# Altium schematic symbol library Libreria_DC_DC_Modulos.SchLib: 16 symbols
Pins are listed as number, name and electrical type; pins without a type are passive.

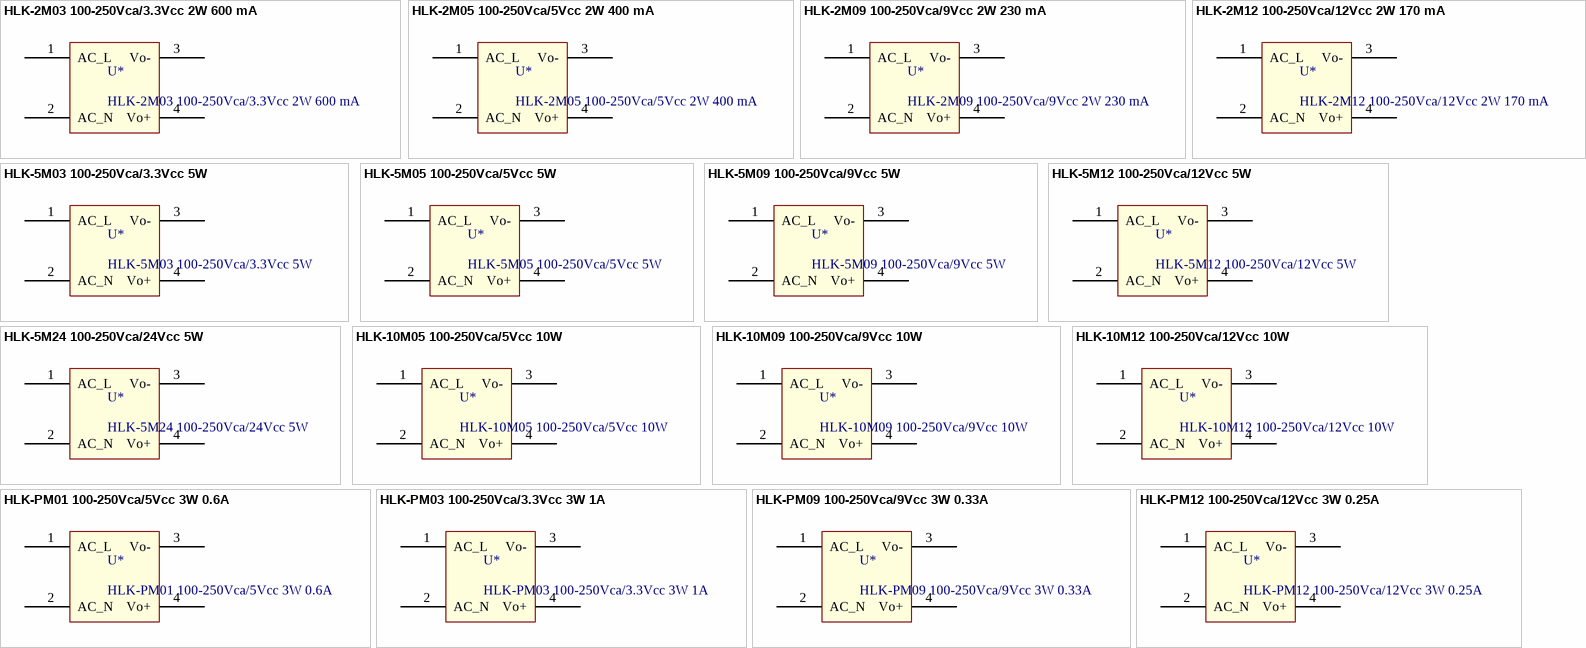
[diagram p0: symbols HLK-2M03 100-250Vca/3.3Vcc 2W 600 mA to HLK-PM12 100-250Vca/12Vcc 3W 0.25A]

## HLK-2M03 100-250Vca/3.3Vcc 2W 600 mA
designator U*
COD. ELEMON: PS1582M03
footprint HLK-2W03 (HLK-2M03 100-250Vca/3.3Vcc 2W 600mA 30x16x19mm)
pins: 1 AC_L, 2 AC_N, 3 Vo-, 4 Vo+

## HLK-2M05 100-250Vca/5Vcc 2W 400 mA
designator U*
COD. ELEMON: PS1582M05
footprint HLK-2W05 (HLK-2M05 100-250Vca/5Vcc 2W 400mA 30x16x19mm)
pins: 1 AC_L, 2 AC_N, 3 Vo-, 4 Vo+

## HLK-2M09 100-250Vca/9Vcc 2W 230 mA
designator U*
COD. ELEMON: PS1582M09
footprint HLK-2W09 (HLK-2M09 100-250Vac/9Vcc 2W 230mA 30x16x19mm)
pins: 1 AC_L, 2 AC_N, 3 Vo-, 4 Vo+

## HLK-2M12 100-250Vca/12Vcc 2W 170 mA
designator U*
COD. ELEMON: PS1582M12
footprint HLK-2W12 (HLK-2M12 100-250Vca/12Vcc 2W 170mA 30x16x19mm)
pins: 1 AC_L, 2 AC_N, 3 Vo-, 4 Vo+

## HLK-5M03 100-250Vca/3.3Vcc 5W
designator U*
COD. ELEMON: PS1585M03
footprint HLK-5M03 (HLK-5M03 100-250Vac/3.3Vcc 5W)
pins: 1 AC_L, 2 AC_N, 3 Vo-, 4 Vo+

## HLK-5M05 100-250Vca/5Vcc 5W
designator U*
COD. ELEMON: PS1585M05
footprint HLK-5M05 (HLK-5M05 100-250Vac/5Vcc 5W)
pins: 1 AC_L, 2 AC_N, 3 Vo-, 4 Vo+

## HLK-5M09 100-250Vca/9Vcc 5W
designator U*
COD. ELEMON: PS1585M09
footprint HLK-5M09 (HLK-5M09 100-250Vac/9Vcc 5W)
pins: 1 AC_L, 2 AC_N, 3 Vo-, 4 Vo+

## HLK-5M12 100-250Vca/12Vcc 5W
designator U*
COD. ELEMON: PS1585M12
footprint HLK-5M12 (HLK-5M12 100-250Vac/12Vcc 5W)
pins: 1 AC_L, 2 AC_N, 3 Vo-, 4 Vo+

## HLK-5M24 100-250Vca/24Vcc 5W
designator U*
COD. ELEMON: PS1585M24
footprint HLK-5M24 (HLK-5M24 100-250Vac/24Vcc 5W)
pins: 1 AC_L, 2 AC_N, 3 Vo-, 4 Vo+

## HLK-10M05 100-250Vca/5Vcc 10W
designator U*
COD. ELEMON: PS15810M05
footprint HLK-10M05 (HLK-10M05 100-250Vca/5Vcc 10W)
pins: 1 AC_L, 2 AC_N, 3 Vo-, 4 Vo+

## HLK-10M09 100-250Vca/9Vcc 10W
designator U*
COD. ELEMON: PS15810M09
footprint HLK-10M09 (HLK-10M09 100-250Vca/9Vcc 10W)
pins: 1 AC_L, 2 AC_N, 3 Vo-, 4 Vo+

## HLK-10M12 100-250Vca/12Vcc 10W
designator U*
COD. ELEMON: PS15810M12
footprint HLK-10M12 (HLK-10M12 100-250Vca/12Vcc 10W)
pins: 1 AC_L, 2 AC_N, 3 Vo-, 4 Vo+

## HLK-PM01 100-250Vca/5Vcc 3W 0.6A
designator U*
COD. ELEMON: PS158PM01
footprint HLK-PM01 (HLK-PM01 100-250Vca/5Vcc 3W)
pins: 1 AC_L, 2 AC_N, 3 Vo-, 4 Vo+

## HLK-PM03 100-250Vca/3.3Vcc 3W 1A
designator U*
COD. ELEMON: PS158PM03
footprint HLK-PM03 (HLK-PM03 100-250Vca/3.3Vcc 3W)
pins: 1 AC_L, 2 AC_N, 3 Vo-, 4 Vo+

## HLK-PM09 100-250Vca/9Vcc 3W 0.33A
designator U*
COD. ELEMON: PS158PM09
footprint HLK-PM09 (HLK-PM09 100-250Vca/9Vcc 3W)
pins: 1 AC_L, 2 AC_N, 3 Vo-, 4 Vo+

## HLK-PM12 100-250Vca/12Vcc 3W 0.25A
designator U*
COD. ELEMON: PS158PM12
footprint HLK-PM12 (HLK-PM12 100-250Vca/9Vcc 3W)
pins: 1 AC_L, 2 AC_N, 3 Vo-, 4 Vo+